# Altium footprint library Connector Footprints.PcbLib: 65 footprints (part 2 of 5)
Each footprint in its own frame and in the unit in brackets; x right, y up, seen from the top. Pads: shape width x height; smd on the part's side, far side on the other; paste and mask are expansions set on the pad; w line width, h text height; cw(c..) or ccw(c..) is an arc to the next point about the centre after c.
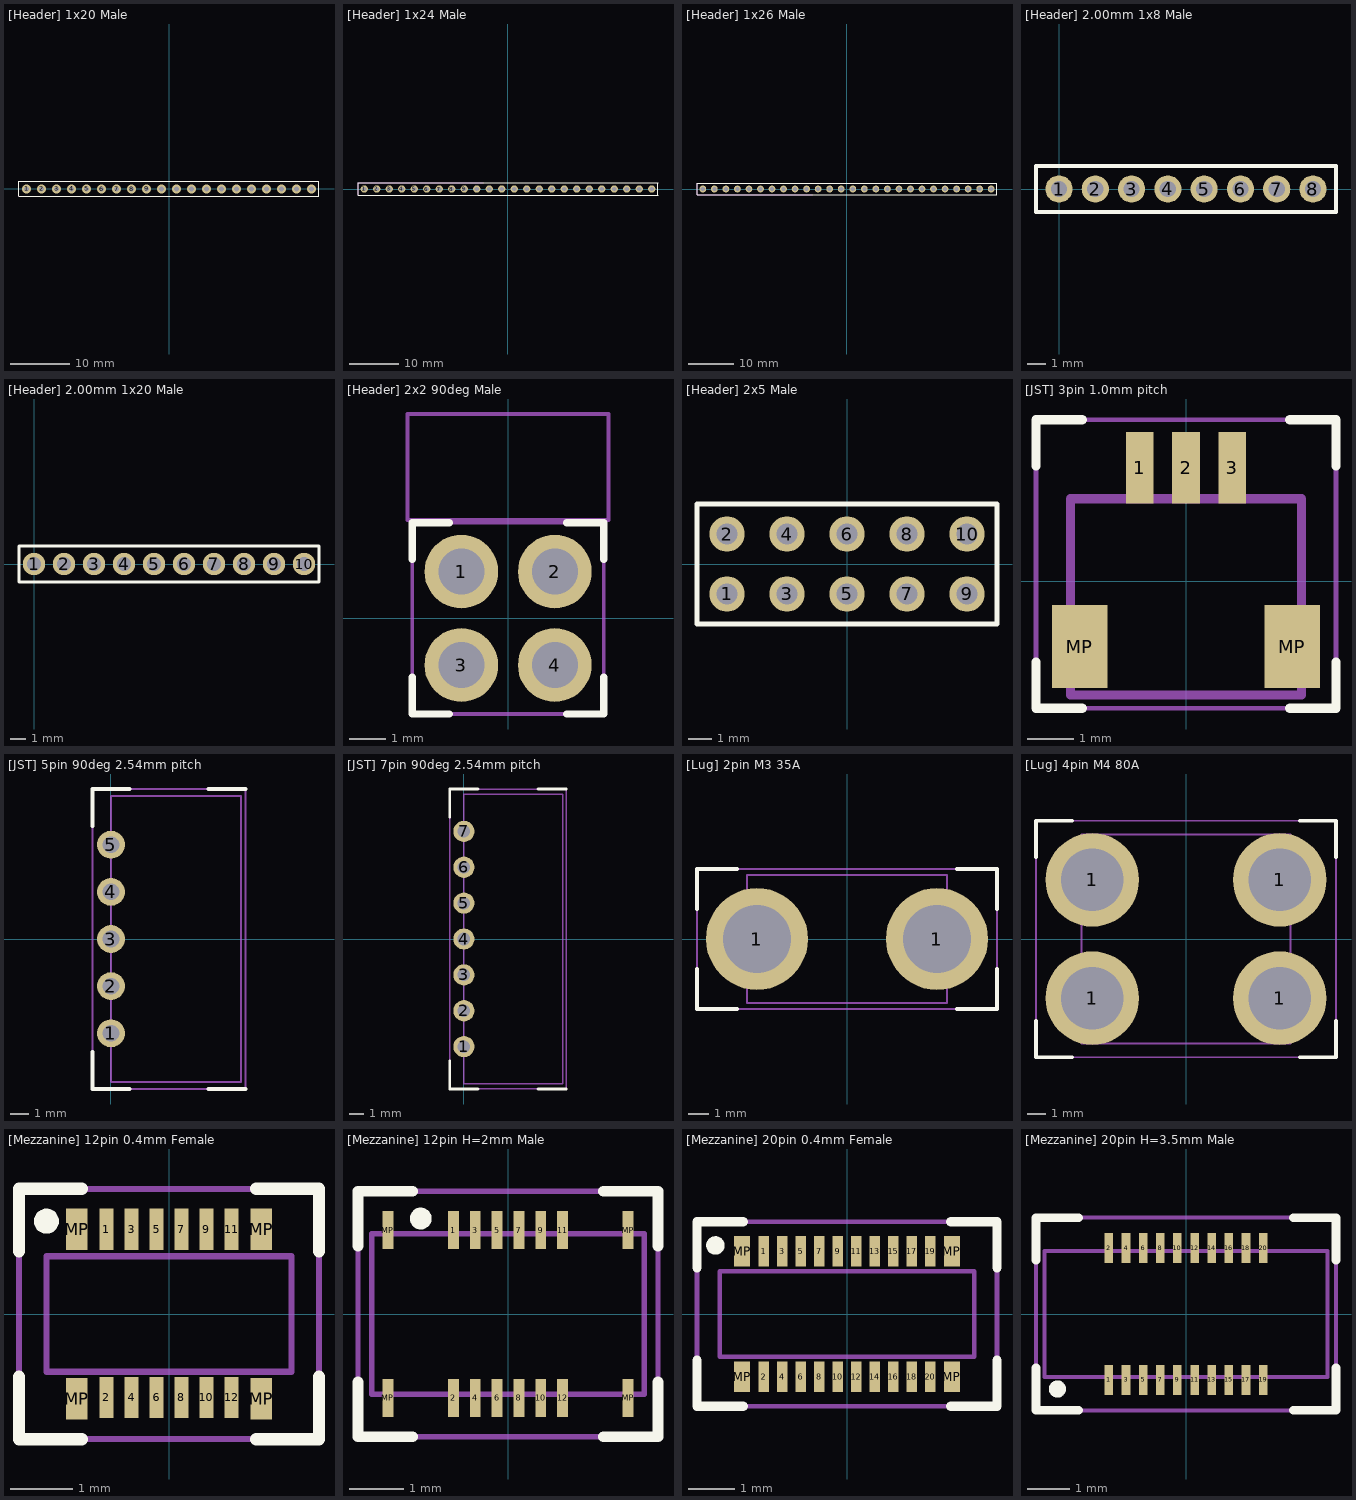
[diagram p1: the footprints below, top view; thin cyan lines are the x and y axes]

## [Header] 1x20 Male [mm]
pads (20):
  round 1.5 hole 0.9: 1(-24.13,0) 2(-21.59,0) 3(-19.05,0) 4(-16.51,0) 5(-13.97,0) 6(-11.43,0) 7(-8.89,0) 8(-6.35,0) 9(-3.81,0) 10(-1.27,0) 11(1.27,0) 12(3.81,0) 13(6.35,0) 14(8.89,0) 15(11.43,0) 16(13.97,0) 17(16.51,0) 18(19.05,0) 19(21.59,0) 20(24.13,-0.001)
Top Overlay:
  lines w0.2: -25.4,-1.27 -25.4,1.27 25.4,1.27 25.4,-1.271 -25.4,-1.27
Bottom Overlay:
  lines w0.2: -25.4,-1.27 25.4,-1.27 25.4,1.27 -25.4,1.27 -25.4,-1.27
Part Outline:
  lines w0.1: -25.4,-1.27 25.4,-1.27 25.4,1.27 -25.4,1.27 -25.4,-1.27
3D body "Pin Header 1x10 TH Pitch 2.54mm.stp": height 9.5, standoff -3.2, extent 0,-1.27 25.4,1.27
3D body "Pin Header 1x10 TH Pitch 2.54mm.stp": height 9.5, standoff -3.2, extent -25.4,-1.27 0,1.27

## [Header] 1x24 Male [mm]
pads (24):
  round 1.5 hole 0.9: 1(-29.21,0) 2(-26.67,0) 3(-24.13,0) 4(-21.59,0.001) 5(-19.05,0) 6(-16.51,0) 7(-13.97,0) 8(-11.43,0) 9(-8.89,0) 10(-6.35,0) 11(-3.81,0) 12(-1.27,0) 13(1.27,0) 14(3.81,0) 15(6.35,0) 16(8.89,0) 17(11.43,0) 18(13.97,0) 19(16.51,0) 20(19.05,0) 21(21.59,0) 22(24.13,0) 23(26.67,0) 24(29.21,0)
Top Overlay:
  lines w0.2: -30.48,-1.27 -30.48,1.27 30.48,1.271 30.48,-1.27 -30.48,-1.269
Bottom Overlay:
  lines w0.2: -30.48,-1.269 30.48,-1.269 30.48,1.271 -30.48,1.271 -30.48,-1.27
Part Outline:
  lines w0.1: -5.08,-1.269 -30.48,-1.269 -30.48,1.27 -5.08,1.271
3D body "Pin Header 1x10 TH Pitch 2.54mm.stp": height 9.5, standoff -3.2, extent -5.08,-1.27 20.32,1.27
3D body "Pin Header 1x10 TH Pitch 2.54mm.stp": height 9.5, standoff -3.2, extent -30.48,-1.27 -5.08,1.27
3D body "Pin Header 1x4 TH Pitch 2.54mm.stp": height 9.5, standoff -3.2, extent 20.32,-1.27 30.48,1.27

## [Header] 1x26 Male [mm]
pads (26):
  round 1.5 hole 0.9: 1(-31.75,0) 2(-29.21,0) 3(-26.67,0) 4(-24.13,0.001) 5(-21.59,0) 6(-19.05,0) 7(-16.51,0) 8(-13.97,0) 9(-11.43,0) 10(-8.89,0) 11(-6.35,0) 12(-3.81,0) 13(-1.27,0) 14(1.27,0) 15(3.81,0) 16(6.35,0) 17(8.89,0) 18(11.43,0) 19(13.97,0) 20(16.51,0) 21(19.05,0) 22(21.59,0) 23(24.13,0) 24(26.67,0) 25(29.21,0) 26(31.75,0)
Top Overlay:
  lines w0.2: -33.02,-1.27 -33.02,1.27 33.02,1.271 33.02,-1.27 -33.02,-1.269
Bottom Overlay:
  lines w0.2: -33.02,-1.269 33.02,-1.269 33.02,1.271 -33.02,1.271 -33.02,-1.27
Part Outline:
  lines w0.1: -7.62,-1.269 -33.02,-1.269 -33.02,1.27 -7.62,1.271
3D body "Pin Header 1x10 TH Pitch 2.54mm.stp": height 9.5, standoff -3.2, extent -7.62,-1.27 17.78,1.27
3D body "Pin Header 1x10 TH Pitch 2.54mm.stp": height 9.5, standoff -3.2, extent -33.02,-1.27 -7.62,1.27
3D body "Pin Header 1x6 TH Pitch 2.54mm.stp": height 9.5, standoff -3.2, extent 17.78,-1.27 33.02,1.27

## [Header] 2.00mm 1x8 Male [mm]
pads (8):
  round 1.5 hole 0.9: 1(0,0) 2(2,0) 3(4,0) 4(6,0) 5(8,0) 6(10,0) 7(12,0) 8(14,0)
Top Overlay:
  lines w0.2: -1.27,-1.27 -1.27,1.27 15.27,1.27 15.27,-1.27 -1.27,-1.27
Bottom Overlay:
  lines w0.2: -1.27,-1.27 15.27,-1.27 15.27,1.27 -1.27,1.27 -1.27,-1.27
Part Outline:
  lines w0.1: -1.27,-1.27 15.27,-1.27 15.27,1.27 -1.27,1.27 -1.27,-1.27
3D body "[Header] 2.00mm 1x8 Male.STEP": height 4.8, standoff -3.6, extent -1,-1 15,1

## [Header] 2.00mm 1x20 Male [mm] "2RS1-20-G"
pads (10):
  round 1.5 hole 0.9: 1(0,0) 2(2,0) 3(4,0) 4(6,0) 5(8,0) 6(10,0) 7(12,0) 8(14,0) 9(16,0) 10(18,0)
Top Overlay:
  lines w0.2: -1,-1.2 19,-1.2 19,1.2 -1,1.2 -1,-1.2
Bottom Overlay:
  lines w0.2: -1,-1.2 -1,1.2 19,1.2 19,-1.2 -1,-1.2
Part Outline:
  lines w0.1: -1,-1.2 19,-1.2 19,1.2 -1,1.2 -1,-1.2
3D body "[Header] 2.00mm 1x10 Male.stp": height 4.4, standoff -2.1, extent -1,-1.2 19,1.2

## [Header] 2x2 90deg Male [mm] "PH2RA-04-UA"
pads (4):
  round 2 hole 1.25: 1(-1.27,1.27) 2(1.27,1.27) 3(-1.27,-1.27) 4(1.27,-1.27)
Top Overlay:
  lines w0.2: -2.6,-1.6 -2.6,-2.6 -1.6,-2.6 ; -2.6,1.6 -2.6,2.6 -1.6,2.6 ; 1.6,-2.6 2.6,-2.6 2.6,-1.6 ; 1.6,2.6 2.6,2.6 2.6,1.6
Physical Drawing:
  lines w0.1: -2.731,2.67 2.73,2.67 2.73,5.551 -2.731,5.551 -2.731,2.67
Part Outline:
  lines w0.1: -2.6,2.595 2.6,2.595 ; -2.6,-2.6 2.6,-2.6 2.6,2.6 -2.6,2.6 -2.6,-2.6
3D body "PH2RA-04-UA.stp": height 5.38, standoff -3.38, extent -2.73,-1.59 2.73,11.932

## [Header] 2x5 Male [mm]
pads (10):
  round 1.5 hole 0.9: 1(-5.08,-1.27) 2(-5.08,1.27) 3(-2.54,-1.27) 4(-2.54,1.27) 5(0,-1.27) 6(0,1.27) 7(2.54,-1.27) 8(2.54,1.27) 9(5.08,-1.27) 10(5.08,1.27)
Top Overlay:
  lines w0.2: -6.35,-2.54 6.35,-2.54 6.35,2.54 -6.35,2.54 -6.35,-2.54
Bottom Overlay:
  lines w0.2: -6.35,-2.54 -6.35,2.54 6.35,2.54 6.35,-2.54 -6.35,-2.54
Part Outline:
  lines w0.1: -6.35,-2.54 6.35,-2.54 6.35,2.54 -6.35,2.54 -6.35,-2.54
3D body "Pin Header 1x5 TH Pitch 2.54mm.stp": height 9.5, standoff -3.2, extent -6.35,0 6.35,2.54
3D body "Pin Header 1x5 TH Pitch 2.54mm.stp": height 9.5, standoff -3.2, extent -6.35,-2.54 6.35,0

## [JST] 3pin 1.0mm pitch [mm] "Debug connector recommended for RP2350-series SW pins."
pads (5):
  rect 0.6x1.55 smd: 1(-1,2.463) 2(0,2.463) 3(1,2.463)
  rect 1.2x1.8 smd: MP(-2.3,-1.413) MP(2.3,-1.413)
Top Overlay:
  lines w0.2: -3.25,-1.75 -3.25,-2.75 -2.25,-2.75 ; -3.25,2.5 -3.25,3.5 -2.25,3.5 ; 2.25,-2.75 3.25,-2.75 3.25,-1.75 ; 2.25,3.5 3.25,3.5 3.25,2.5
Physical Drawing:
  lines w0.2: -2.5,-2.463 -2.5,1.787 2.5,1.787 2.5,-2.463 -2.5,-2.463
Part Outline:
  lines w0.1: -3.25,-2.75 -3.25,3.5 3.25,3.5 3.25,-2.75 -3.25,-2.75
3D body "SM03B-SRSS-TB_LF__SN_.stp": height 2.96, standoff 0, extent -2.5,-2.085 2.5,2.865

## [JST] 5pin 90deg 2.54mm pitch [mm]
pads (5):
  round 1.5 hole 0.9: 1(0,-5.08) 2(0,-2.54) 3(0,0) 4(0,2.54) 5(0,5.08)
Top Overlay:
  lines w0.2: -1,-6.08 -1,-8.08 1,-8.08 ; -1,6.08 -1,8.08 1,8.08 ; 5.25,-8.08 7.25,-8.08 ; 5.25,8.08 7.25,8.08
Physical Drawing:
  lines w0.1: 0,-7.71 0,7.71 7,7.71 7,-7.71 0,-7.71
Part Outline:
  lines w0.1: -1,-8.08 -1,8.08 7.25,8.08 7.25,-8.08 -1,-8.08
3D body "WHITE JST XH 5 PIN CONNECTOR - P 2.54mm - ANGLED.stp": height 5.88, standoff -2.85, extent -0.46,-7.71 7,7.71

## [JST] 7pin 90deg 2.54mm pitch [mm]
pads (7):
  round 1.5 hole 0.9: 1(0,-7.62) 2(0,-5.08) 3(0,-2.54) 4(0,0) 5(0,2.54) 6(0,5.08) 7(0,7.62)
Top Overlay:
  lines w0.2: -1,-8.62 -1,-10.62 1,-10.62 ; -1,8.62 -1,10.62 1,10.62 ; 5.25,-10.62 7.25,-10.62 ; 5.25,10.62 7.25,10.62
Physical Drawing:
  lines w0.1: 0,-10.25 7,-10.25 7,10.25 0,10.25 0,-10.25
Part Outline:
  lines w0.1: -1,-10.62 7.25,-10.62 7.25,10.62 -1,10.62 -1,-10.62
3D body "WHITE JST XH 7 PIN CONNECTOR - P 2.54mm - ANGLED.stp": height 2.88, standoff -5.85, extent -0.46,-10.25 7,10.25

## [Lug] 2pin M3 35A [mm] "AMT0230003TH0000G"
pads (2):
  round 5.1 hole 3.4: 1(-4.5,0) 1(4.5,0)
Top Overlay:
  lines w0.2: -7.5,-1.5 -7.5,-3.5 -5.5,-3.5 ; -7.5,1.5 -7.5,3.5 -5.5,3.5 ; 5.5,-3.5 7.5,-3.5 7.5,-1.5 ; 5.5,3.5 7.5,3.5 7.5,1.5
Physical Drawing:
  lines w0.1: -5,-3.2 -5,3.2 5,3.2 5,-3.2 -5,-3.2
Part Outline:
  lines w0.1: -7.5,-3.5 -7.5,3.5 7.5,3.5 7.5,-3.5 -7.5,-3.5
3D body "AMT0230003TH0000G.stp": height 5.33, standoff -2.67, extent -5,-3.2 5,3.2

## [Lug] 4pin M4 80A [mm] "AMT0440005TH0000G"
pads (4):
  round 5.145 hole 3.43: 1(-5.15,-3.25) 1(-5.15,3.25) 1(5.15,-3.25) 1(5.15,3.25)
Top Overlay:
  lines w0.2: -8.25,-4.5 -8.25,-6.5 -6.25,-6.5 ; -8.25,4.5 -8.25,6.5 -6.25,6.5 ; 6.25,-6.5 8.25,-6.5 8.25,-4.5 ; 6.25,6.5 8.25,6.5 8.25,4.5
Physical Drawing:
  lines w0.1: -5.75,-5.75 5.75,-5.75 5.75,5.75 -5.75,5.75 -5.75,-5.75
Part Outline:
  lines w0.1: -8.25,-6.5 8.25,-6.5 8.25,6.5 -8.25,6.5 -8.25,-6.5
3D body "AMT0440005TH0000G.stp": height 7.4, standoff -3.6, extent -5.79,-5.7 5.71,5.8

## [Mezzanine] 12pin 0.4mm Female [mm]
pads (16):
  rect 0.23x0.66 smd paste-0.018 mask+0.05: 1(-1,1.355) 2(-1,-1.335) 3(-0.6,1.355) 4(-0.6,-1.335) 5(-0.2,1.355) 6(-0.2,-1.335) 7(0.2,1.355) 8(0.2,-1.335) 9(0.6,1.355) 10(0.6,-1.335) 11(1,1.355) 12(1,-1.335)
  rect 0.35x0.66 smd paste-0.024 mask+0.05: MP(-1.475,-1.355) MP(-1.475,1.355) MP(1.475,-1.355) MP(1.475,1.355)
Top Overlay:
  circle w0.2: c-1.96,1.485 r0.1
  lines w0.2: -2.4,-1 -2.4,-2 -1.4,-2 ; -2.4,1 -2.4,2 -1.4,2 ; 1.4,-2 2.4,-2 2.4,-1 ; 1.4,2 2.4,2 2.4,1
Physical Drawing:
  lines w0.1: -1.96,-0.925 1.96,-0.925 1.96,0.925 -1.96,0.925 -1.96,-0.925
Part Outline:
  lines w0.1: -2.4,-2 -2.4,2 2.4,2 2.4,-2 -2.4,-2
3D body "[Mezzanine] 12pin 0.4mm Female.stp": height 1.14, standoff 0, extent -1.96,-1.485 1.96,1.485

## [Mezzanine] 12pin H=2mm Male [mm]
pads (16):
  rect 0.2x0.7 smd: 1(-1,1.54) 2(-1,-1.54) 3(-0.6,1.54) 4(-0.6,-1.54) 5(-0.2,1.54) 6(-0.2,-1.54) 7(0.2,1.54) 8(0.2,-1.54) 9(0.6,1.54) 10(0.6,-1.54) 11(1,1.54) 12(1,-1.54) MP(-2.2,-1.54) MP(-2.2,1.54) MP(2.2,-1.54) MP(2.2,1.54)
Top Overlay:
  circle w0.2: c-1.6,1.75 r0.1
  lines w0.2: -2.75,-1.25 -2.75,-2.25 -1.75,-2.25 ; -2.75,1.25 -2.75,2.25 -1.75,2.25 ; 1.75,-2.25 2.75,-2.25 2.75,-1.25 ; 1.75,2.25 2.75,2.25 2.75,1.25
Physical Drawing:
  lines w0.1: -2.5,-1.47 2.5,-1.47 2.5,1.47 -2.5,1.47 -2.5,-1.47
Part Outline:
  lines w0.1: -2.75,-2.25 2.75,-2.25 2.75,2.25 -2.75,2.25 -2.75,-2.25
3D body "[Mezzanine] 12pin H=2mm Male.stp": height 1.9, standoff -0.05, extent -2.5,-1.69 2.5,1.69

## [Mezzanine] 20pin 0.4mm Female [mm] "DF40C-20DP-0.4V(51)"
pads (24):
  rect 0.23x0.66 smd paste+0 mask+0.102: 1(-1.8,1.355) 2(-1.8,-1.355) 3(-1.4,1.355) 4(-1.4,-1.355) 5(-1,1.355) 6(-1,-1.355) 7(-0.6,1.355) 8(-0.6,-1.355) 9(-0.2,1.355) 10(-0.2,-1.355) 11(0.2,1.355) 12(0.2,-1.355) 13(0.6,1.355) 14(0.6,-1.355) 15(1,1.355) 16(1,-1.355) 17(1.4,1.355) 18(1.4,-1.355) 19(1.8,1.355) 20(1.8,-1.355)
  rect 0.35x0.66 smd paste+0 mask+0.102: MP(-2.275,-1.355) MP(-2.275,1.355) MP(2.275,-1.355) MP(2.275,1.355)
Top Overlay:
  circle w0.2: c-2.85,1.485 r0.1
  lines w0.2: -3.25,-1 -3.25,-2 -2.25,-2 ; -3.25,1 -3.25,2 -2.25,2 ; 2.25,-2 3.25,-2 3.25,-1 ; 2.25,2 3.25,2 3.25,1
Physical Drawing:
  lines w0.1: -2.76,-0.925 -2.76,0.925 2.76,0.925 2.76,-0.925 -2.76,-0.925
Part Outline:
  lines w0.1: -3.25,-2 -3.25,2 3.25,2 3.25,-2 -3.25,-2
3D body "step_temp.STEP": height 1.14, standoff 0, extent -2.76,-1.485 2.76,1.485

## [Mezzanine] 20pin H=3.5mm Male [mm] "DF40HC(3.5)-20DS-0.4V(51)"
pads (20):
  rect 0.2x0.7 smd paste-0.016 mask+0.05: 1(-1.8,-1.54) 2(-1.8,1.54) 3(-1.4,-1.54) 4(-1.4,1.54) 5(-1,-1.54) 6(-1,1.54) 7(-0.6,-1.54) 8(-0.6,1.54) 9(-0.2,-1.54) 10(-0.2,1.54) 11(0.2,-1.54) 12(0.2,1.54) 13(0.6,-1.54) 14(0.6,1.54) 15(1,-1.54) 16(1,1.54) 17(1.4,-1.54) 18(1.4,1.54) 19(1.8,-1.54) 20(1.8,1.54)
Top Overlay:
  circle w0.2: c-3,-1.75 r0.1
  lines w0.2: -3.5,-1.25 -3.5,-2.25 -2.5,-2.25 ; -3.5,1.25 -3.5,2.25 -2.5,2.25 ; 2.5,-2.25 3.5,-2.25 3.5,-1.25 ; 2.5,2.25 3.5,2.25 3.5,1.25
Physical Drawing:
  lines w0.1: -3.3,-1.47 -3.3,1.47 3.3,1.47 3.3,-1.47 -3.3,-1.47
Part Outline:
  lines w0.1: -3.5,-2.25 3.5,-2.25 3.5,2.25 -3.5,2.25 -3.5,-2.25
3D body "[Mezzanine] 20pin H=3,5mm Male.STEP": height 3.4, standoff 0, extent -3.3,-1.69 3.3,1.69